# Altium footprint library hddr_3x1_0.PcbLib: 1 footprints
Each footprint in its own frame and in the unit in brackets; x right, y up, seen from the top. Pads: shape width x height; smd on the part's side, far side on the other; paste and mask are expansions set on the pad; w line width, h text height; cw(c..) or ccw(c..) is an arc to the next point about the centre after c.
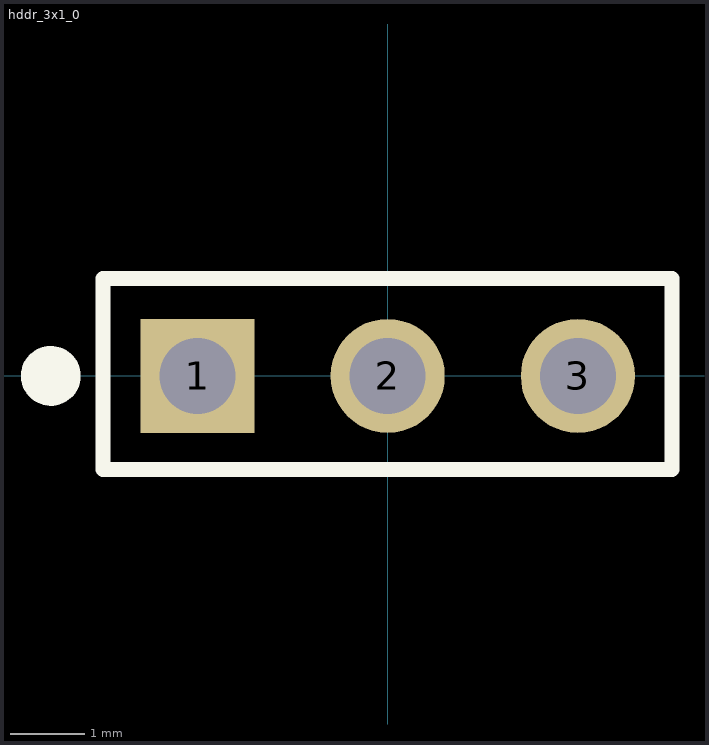
[diagram p0: the footprint, top view; thin cyan lines are the x and y axes]

## hddr_3x1_0 [mil] "0.1\" Header 3x1"
pads (3):
  rect 60x60 hole 40: 1(-100,0)
  round 60 hole 40: 2(0,0) 3(100,0)
Top Overlay:
  circle w15.75: c-177.17,0 r7.87
  lines w7.87: -149.61,-49.21 -149.61,51.18 149.61,51.18 149.61,-49.21 -149.61,-49.21
3D body "hddr_male_3x1.SLDPRT": height 336.22, standoff -118.11, extent -150,-49.21 150,50.79